# EAGLE library part MC33365 (library PWM)
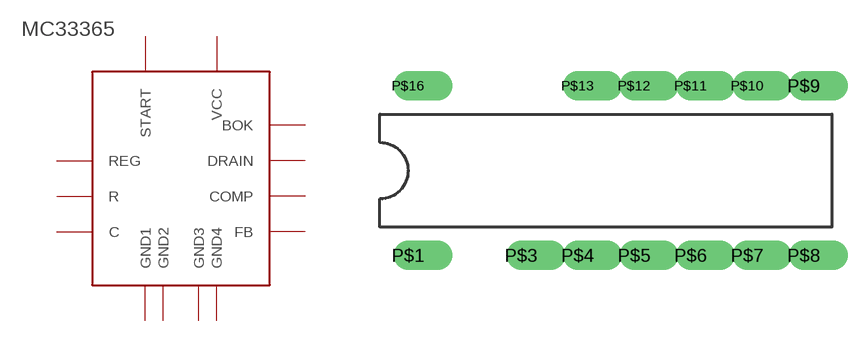
[diagram p3: symbol with the pads of DIP16-OLPWM; footprint DIP16-OLPWM]

Designator prefix P

## MC33365  [DIP16-OLPWM]
P$1  START
P$3  VCC
P$4  GND1
P$5  GND2
P$6  R
P$7  C
P$8  REG
P$9  COMP
P$10  FB
P$11  BOK
P$12  GND3
P$13  GND4
P$16  DRAIN

## Footprint DIP16-OLPWM (pad centres in mm)
drill 0.813 offset: P$1 -11.43,-3.81; P$3 -6.35,-3.81; P$4 -3.81,-3.81; P$5 -1.27,-3.81; P$6 1.27,-3.81; P$7 3.81,-3.81; P$8 6.35,-3.81; P$9 6.35,3.81; P$10 3.81,3.81; P$11 1.27,3.81; P$12 -1.27,3.81; P$13 -3.81,3.81; P$16 -11.43,3.81